# Altium footprint library buoys_pcb_lib.PcbLib: 17 footprints (part 1 of 2)
Each footprint in its own frame and in the unit in brackets; x right, y up, seen from the top. Pads: shape width x height; smd on the part's side, far side on the other; paste and mask are expansions set on the pad; w line width, h text height; cw(c..) or ccw(c..) is an arc to the next point about the centre after c.
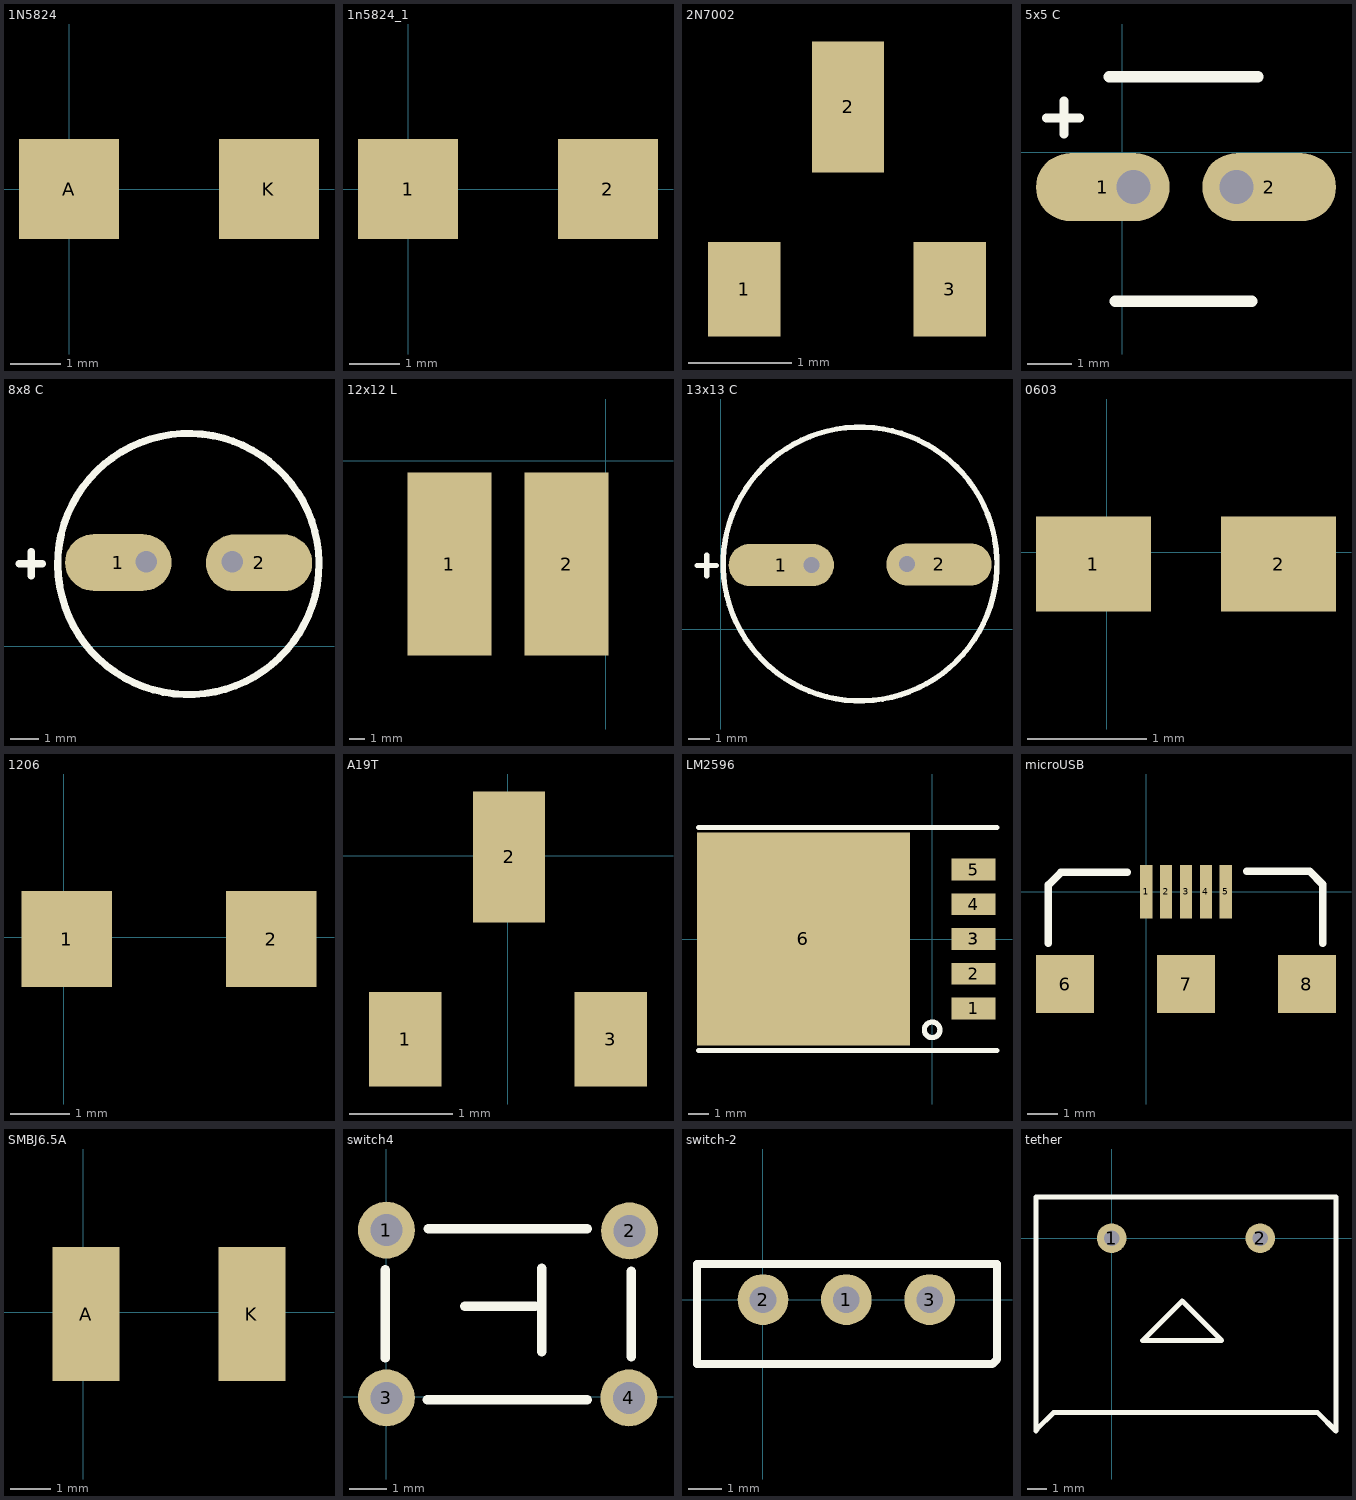
[diagram p0: the footprints below, top view; thin cyan lines are the x and y axes]

## 1N5824 [mm]
pads (2):
  rect 2x2 smd: A(0,0.01) K(4,0.01)

## 1n5824_1 [mm]
pads (2):
  rect 2x2 smd: 1(0,0) 2(4,0)

## 2N7002 [mm]
pads (3):
  rect 0.7x0.915 smd: 1(-8.914,115.837) 3(-6.926,115.835)
  rect 0.7x1.27 smd: 2(-7.91,117.6)

## 5x5 C [mm]
pads (2):
  oval 3x1.524 smd: 1(-0.43,-0.79) 2(3.3,-0.79)
via 2.57,-0.79 diameter 1.27 hole 0.762
via 0.26,-0.79 diameter 1.27 hole 0.762
Top Overlay:
  lines w0.2: -1.7,0.76 -0.95,0.76 ; -1.3,0.4 -1.3,1.15
  lines w0.254: -0.29,1.69 3.05,1.69 ; -0.15,-3.35 2.91,-3.35

## 8x8 C [mm]
pads (2):
  oval 3.75x2 smd: 1(-7.8,2.94) 2(-2.84,2.93)
via -6.81,2.97 diameter 1.27 hole 0.762
via -3.78,2.97 diameter 1.27 hole 0.762
Top Overlay:
  lines w0.254: -11.3,2.9 -10.47,2.9 ; -10.87,2.47 -10.87,3.32 ; -0.728,2.961 ccw(c-5.33,2.89) -0.727,2.91

## 12x12 L [mm]
pads (2):
  rect 5.5x12 smd: 1(-10.27,-6.79) 2(-2.58,-6.79)

## 13x13 C [mm]
pads (2):
  oval 5x2 smd: 1(2.87,3.04) 2(10.36,3.07)
via 8.83,3.09 diameter 1.27 hole 0.762
via 4.3,3.04 diameter 1.27 hole 0.762
Top Overlay:
  lines w0.254: -1.13,3.02 -0.22,3.02 ; -0.66,2.54 -0.66,3.5 ; 13.106,3.344 ccw(c6.61,3.09) 13.108,3.251

## 0603 [mm]
pads (2):
  rect 0.965x0.8 smd: 1(-0.11,-0.1) 2(1.445,-0.1)

## 1206 [mm]
pads (2):
  rect 1.52x1.6 smd: 1(0.05,-0.03) 2(3.47,-0.03)

## A19T [mm]
pads (3):
  rect 0.7x0.915 smd: 1(-0.994,-1.773) 3(0.994,-1.775)
  rect 0.7x1.27 smd: 2(0.01,-0.01)

## LM2596 [mm]
pads (7):
  rect 2.16x1.07 smd: 1(2.032,-3.4) 2(2.032,-1.7) 3(2.032,0) 3(2.032,0) 4(2.032,1.7) 5(2.032,3.4)
  rect 10.41x10.41 smd: 6(-6.298,0)
Top Overlay:
  circle w0.254: c0,-4.445 r0.381
  lines w0.254: -11.43,-5.461 3.175,-5.461 ; -11.43,5.461 3.175,5.461

## microUSB [mm]
pads (8):
  rect 0.4x1.75 smd: 1(0,0) 2(0.65,0) 3(1.3,0) 4(1.95,0) 5(2.6,0)
  rect 1.9x1.9 smd: 6(-2.65,-3.025) 7(1.3,-3.025) 8(5.25,-3.025)
Top Overlay:
  lines w0.254: -3.2,-1.68 -3.2,0.21 -2.78,0.63 -2.65,0.63 -0.63,0.63 ; 3.29,0.66 5.34,0.66 5.77,0.23 5.77,-1.68

## SMBJ6.5A [mm]
pads (2):
  rect 1.65x3.3 smd: A(0.07,-0.04) K(4.15,-0.04)

## switch4 [mm]
pads (4):
  round 1.524 hole 0.862: 1(0.01,4.47) 2(6.53,4.45) 3(0.01,-0.03) 4(6.51,-0.03)
Top Overlay:
  lines w0.254: -0.02,1.04 -0.02,3.41 ; 1.1,-0.08 5.39,-0.08 ; 1.13,4.51 5.39,4.51 ; 2.11,2.43 4,2.43 ; 4.18,1.21 4.18,3.45 ; 6.57,1.08 6.57,3.37

## switch-2 [mm]
pads (3):
  round 1.524 hole 0.8: 1(2.51,0) 2(0.01,0) 3(5.01,0)
Top Overlay:
  lines w0.254: -1.97,-1.93 6.89,-1.93 7.03,-1.79 7.03,1.07 -1.97,1.07 -1.97,-1.93

## tether [mil]
pads (2):
  round 60 hole 31.5: 1(0,0) 2(300,0)
Top Overlay:
  lines w10: -152.76,-389.37 -152.76,83.07 452.76,83.07 453.15,82.68 453.15,-389.37 416.14,-352.36 -117.32,-352.36 -151.18,-386.22 -152.76,-386.22 ; 142.52,-126.77 62.6,-206.69 222.44,-206.69 144.09,-128.35